# EAGLE library part GENERIC-2X30 (library p.peter-connectors)
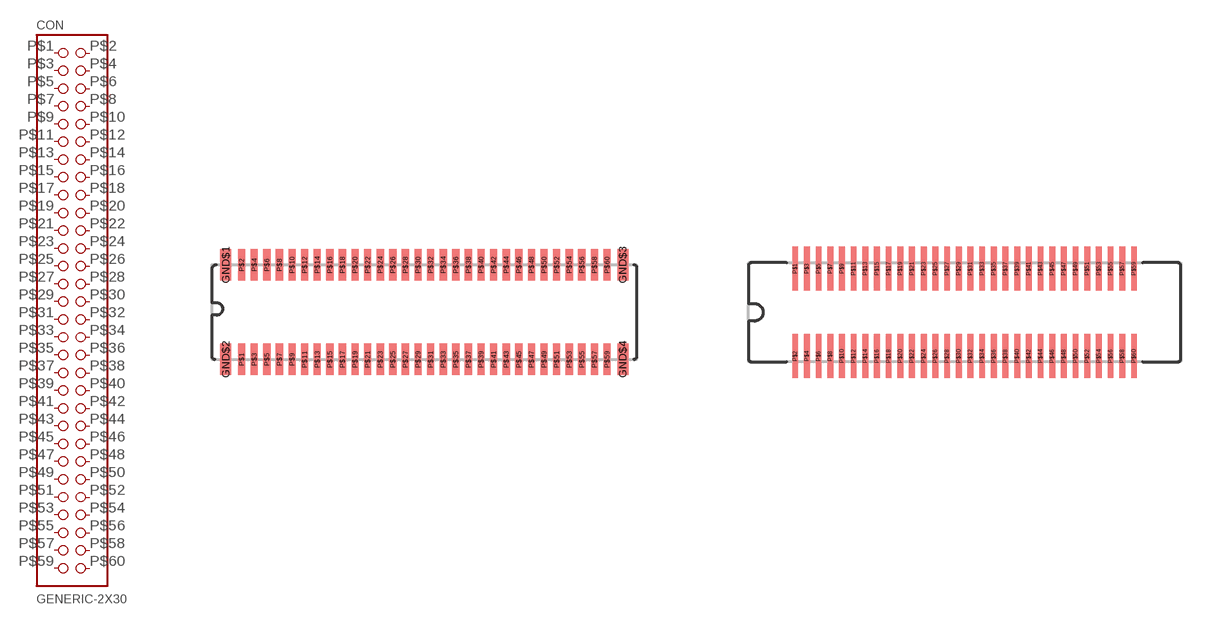
[diagram p5: symbol with the pads of HIROSE-DF40C-60DP; footprints HIROSE-DF40C-60DP, HIROSE-DF40C-60DS]

Designator prefix CON

## GENERIC-2X30-HEADER  [HIROSE-DF40C-60DP]
P$1  1
P$2  2
P$3  3
P$4  4
P$5  5
P$6  6
P$7  7
P$8  8
P$9  9
P$10  10
P$11  11
P$12  12
P$13  13
P$14  14
P$15  15
P$16  16
P$17  17
P$18  18
P$19  19
P$20  20
P$21  21
P$22  22
P$23  23
P$24  24
P$25  25
P$26  26
P$27  27
P$28  28
P$29  29
P$30  30
P$31  31
P$32  32
P$33  33
P$34  34
P$35  35
P$36  36
P$37  37
P$38  38
P$39  39
P$40  40
P$41  41
P$42  42
P$43  43
P$44  44
P$45  45
P$46  46
P$47  47
P$48  48
P$49  49
P$50  50
P$51  51
P$52  52
P$53  53
P$54  54
P$55  55
P$56  56
P$57  57
P$58  58
P$59  59
P$60  60

## GENERIC-2X30-SOCKET  [HIROSE-DF40C-60DS]
Pads as for HIROSE-DF40C-60DP

## Footprint HIROSE-DF40C-60DP (pad centres in mm)
60 Pin Hirose DF 40 Connector Header
smd 0.35 x 1: GND$1 -6.3,1.5; GND$2 -6.3,-1.5; GND$3 6.3,1.5; GND$4 6.3,-1.5
smd 0.23 x 1: P$1 -5.8,-1.5; P$2 -5.8,1.5; P$3 -5.4,-1.5; P$4 -5.4,1.5; P$5 -5,-1.5; P$6 -5,1.5; P$7 -4.6,-1.5; P$8 -4.6,1.5; P$9 -4.2,-1.5; P$10 -4.2,1.5; P$11 -3.8,-1.5; P$12 -3.8,1.5; P$13 -3.4,-1.5; P$14 -3.4,1.5; P$15 -3,-1.5; P$16 -3,1.5; P$17 -2.6,-1.5; P$18 -2.6,1.5; P$19 -2.2,-1.5; P$20 -2.2,1.5; P$21 -1.8,-1.5; P$22 -1.8,1.5; P$23 -1.4,-1.5; P$24 -1.4,1.5; P$25 -1,-1.5; P$26 -1,1.5; P$27 -0.6,-1.5; P$28 -0.6,1.5; P$29 -0.2,-1.5; P$30 -0.2,1.5; P$31 0.2,-1.5; P$32 0.2,1.5; P$33 0.6,-1.5; P$34 0.6,1.5; P$35 1,-1.5; P$36 1,1.5; P$37 1.4,-1.5; P$38 1.4,1.5; P$39 1.8,-1.5; P$40 1.8,1.5; P$41 2.2,-1.5; P$42 2.2,1.5; P$43 2.6,-1.5; P$44 2.6,1.5; P$45 3,-1.5; P$46 3,1.5; P$47 3.4,-1.5; P$48 3.4,1.5; P$49 3.8,-1.5; P$50 3.8,1.5; P$51 4.2,-1.5; P$52 4.2,1.5; P$53 4.6,-1.5; P$54 4.6,1.5; P$55 5,-1.5; P$56 5,1.5; P$57 5.4,-1.5; P$58 5.4,1.5; P$59 5.8,-1.5; P$60 5.8,1.5

## Footprint HIROSE-DF40C-60DS (pad centres in mm)
60 Pin Hirose DF40 connector Receptable
smd 0.2 x 1.5: P$1 -5.8,1.5; P$2 -5.8,-1.5; P$3 -5.4,1.5; P$4 -5.4,-1.5; P$5 -5,1.5; P$6 -5,-1.5; P$7 -4.6,1.5; P$8 -4.6,-1.5; P$9 -4.2,1.5; P$10 -4.2,-1.5; P$11 -3.8,1.5; P$12 -3.8,-1.5; P$13 -3.4,1.5; P$14 -3.4,-1.5; P$15 -3,1.5; P$16 -3,-1.5; P$17 -2.6,1.5; P$18 -2.6,-1.5; P$19 -2.2,1.5; P$20 -2.2,-1.5; P$21 -1.8,1.5; P$22 -1.8,-1.5; P$23 -1.4,1.5; P$24 -1.4,-1.5; P$25 -1,1.5; P$26 -1,-1.5; P$27 -0.6,1.5; P$28 -0.6,-1.5; P$29 -0.2,1.5; P$30 -0.2,-1.5; P$31 0.2,1.5; P$32 0.2,-1.5; P$33 0.6,1.5; P$34 0.6,-1.5; P$35 1,1.5; P$36 1,-1.5; P$37 1.4,1.5; P$38 1.4,-1.5; P$39 1.8,1.5; P$40 1.8,-1.5; P$41 2.2,1.5; P$42 2.2,-1.5; P$43 2.6,1.5; P$44 2.6,-1.5; P$45 3,1.5; P$46 3,-1.5; P$47 3.4,1.5; P$48 3.4,-1.5; P$49 3.8,1.5; P$50 3.8,-1.5; P$51 4.2,1.5; P$52 4.2,-1.5; P$53 4.6,1.5; P$54 4.6,-1.5; P$55 5,1.5; P$56 5,-1.5; P$57 5.4,1.5; P$58 5.4,-1.5; P$59 5.8,1.5; P$60 5.8,-1.5